# Altium footprint library CustomFootprints.PcbLib: 32 footprints (part 2 of 2)
Each footprint in its own frame and in the unit in brackets; x right, y up, seen from the top. Pads: shape width x height; smd on the part's side, far side on the other; paste and mask are expansions set on the pad; w line width, h text height; cw(c..) or ccw(c..) is an arc to the next point about the centre after c.
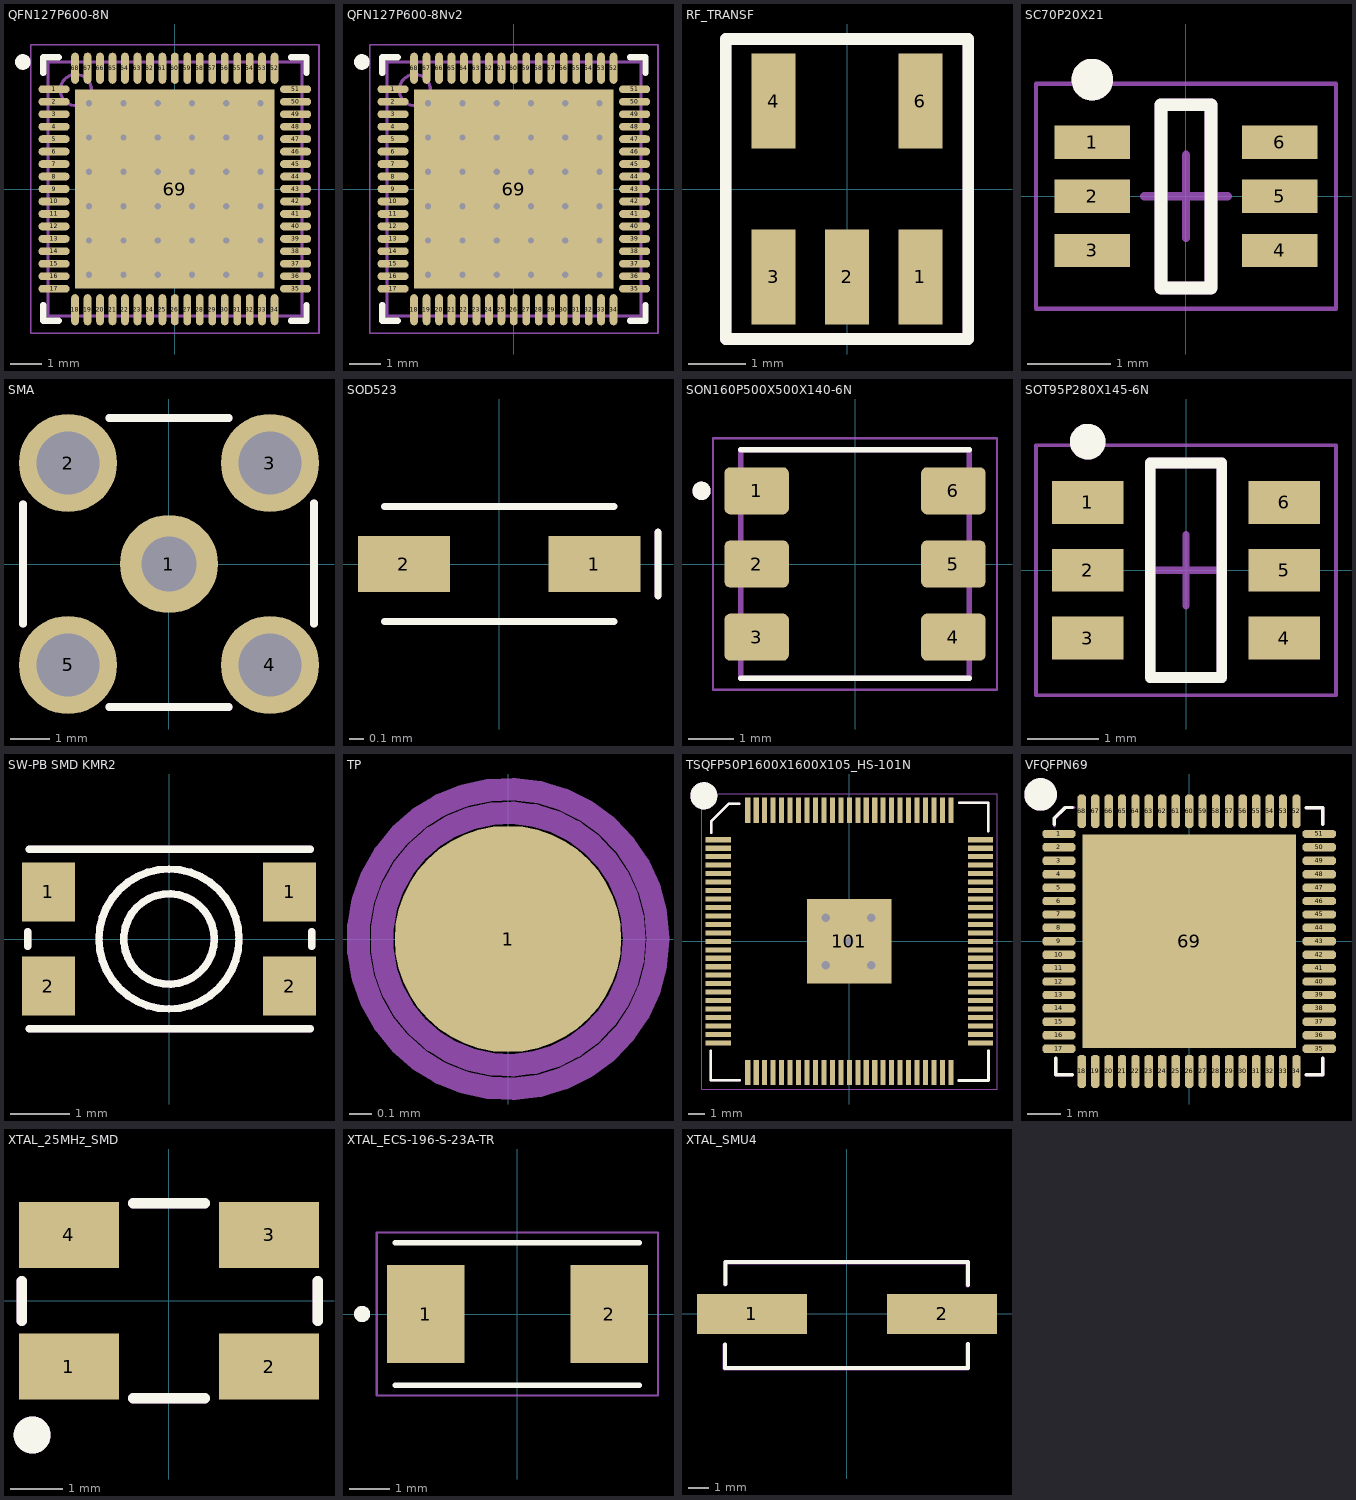
[diagram p1: the footprints below, top view; thin cyan lines are the x and y axes]

## QFN127P600-8N [mm]
height 1
pads (69):
  oval 1x0.25 smd: 1(-3.875,3.2) 2(-3.875,2.8) 3(-3.875,2.4) 4(-3.875,2) 5(-3.875,1.6) 6(-3.875,1.2) 7(-3.875,0.8) 8(-3.875,0.4) 9(-3.875,0) 10(-3.875,-0.4) 11(-3.875,-0.8) 12(-3.875,-1.2) 13(-3.875,-1.6) 14(-3.875,-2) 15(-3.875,-2.4) 16(-3.875,-2.8) 17(-3.875,-3.2) 35(3.875,-3.2) 36(3.875,-2.8) 37(3.875,-2.4) 38(3.875,-2) 39(3.875,-1.6) 40(3.875,-1.2) 41(3.875,-0.8) 42(3.875,-0.4) 43(3.875,0) 44(3.875,0.4) 45(3.875,0.8) 46(3.875,1.2) 47(3.875,1.6) 48(3.875,2) 49(3.875,2.4) 50(3.875,2.8) 51(3.875,3.2)
  oval 0.25x1 smd: 18(-3.2,-3.875) 19(-2.8,-3.875) 20(-2.4,-3.875) 21(-2,-3.875) 22(-1.6,-3.875) 23(-1.2,-3.875) 24(-0.8,-3.875) 25(-0.4,-3.875) 26(0,-3.875) 27(0.4,-3.875) 28(0.8,-3.875) 29(1.2,-3.875) 30(1.6,-3.875) 31(2,-3.875) 32(2.4,-3.875) 33(2.8,-3.875) 34(3.2,-3.875) 52(3.2,3.875) 53(2.8,3.875) 54(2.4,3.875) 55(2,3.875) 56(1.6,3.875) 57(1.2,3.875) 58(0.8,3.875) 59(0.4,3.875) 60(0,3.875) 61(-0.4,3.875) 62(-0.8,3.875) 63(-1.2,3.875) 64(-1.6,3.875) 65(-2,3.875) 66(-2.4,3.875) 67(-2.8,3.875) 68(-3.2,3.875)
  rect 6.4x6.4 smd: 69(0,0)
via -2.75,2.75 diameter 0.5 hole 0.2
via -1.65,2.75 diameter 0.5 hole 0.2
via -0.55,2.75 diameter 0.5 hole 0.2
via 0.55,2.75 diameter 0.5 hole 0.2
via 1.65,2.75 diameter 0.5 hole 0.2
via 2.75,2.75 diameter 0.5 hole 0.2
via -2.75,1.65 diameter 0.5 hole 0.2
via -1.65,1.65 diameter 0.5 hole 0.2
via -0.55,1.65 diameter 0.5 hole 0.2
via 0.55,1.65 diameter 0.5 hole 0.2
via 1.65,1.65 diameter 0.5 hole 0.2
via 2.75,1.65 diameter 0.5 hole 0.2
via -2.75,0.55 diameter 0.5 hole 0.2
via -1.65,0.55 diameter 0.5 hole 0.2
via -0.55,0.55 diameter 0.5 hole 0.2
via 0.55,0.55 diameter 0.5 hole 0.2
via 1.65,0.55 diameter 0.5 hole 0.2
via 2.75,0.55 diameter 0.5 hole 0.2
via -2.75,-0.55 diameter 0.5 hole 0.2
via -1.65,-0.55 diameter 0.5 hole 0.2
via -0.55,-0.55 diameter 0.5 hole 0.2
via 0.55,-0.55 diameter 0.5 hole 0.2
via 1.65,-0.55 diameter 0.5 hole 0.2
via 2.75,-0.55 diameter 0.5 hole 0.2
via -2.75,-1.65 diameter 0.5 hole 0.2
via -1.65,-1.65 diameter 0.5 hole 0.2
via -0.55,-1.65 diameter 0.5 hole 0.2
via 0.55,-1.65 diameter 0.5 hole 0.2
via 1.65,-1.65 diameter 0.5 hole 0.2
via 2.75,-1.65 diameter 0.5 hole 0.2
via -2.75,-2.75 diameter 0.5 hole 0.2
via -1.65,-2.75 diameter 0.5 hole 0.2
via -0.55,-2.75 diameter 0.5 hole 0.2
via 0.55,-2.75 diameter 0.5 hole 0.2
via 1.65,-2.75 diameter 0.5 hole 0.2
via 2.75,-2.75 diameter 0.5 hole 0.2
Top Overlay:
  circle w0.25: c-4.875,4.075 r0.125
  lines w0.2: -4.225,-3.725 -4.225,-4.225 -3.725,-4.225 ; -4.225,3.725 -4.225,4.225 -3.725,4.225 ; 3.725,-4.225 4.225,-4.225 4.225,-3.725 ; 3.725,4.225 4.225,4.225 4.225,3.725
Mechanical 13:
  circle w0.1: c-3.175,3.175 r0.5
  lines w0.1: -4.075,-4.075 -4.075,4.075 4.075,4.075 4.075,-4.075 -4.075,-4.075
Mechanical 15:
  lines w0.05: -4.625,-4.625 -4.625,4.625 4.625,4.625 4.625,-4.625 -4.625,-4.625
  lines w0.1: -0.5,0 0.5,0 ; 0,-0.5 0,0.5
3D body "QFN127P600-8N.step": height 1, standoff 0, extent -4.076,-4.076 4.076,4.076

## QFN127P600-8Nv2 [mm]
height 1
pads (69):
  oval 1x0.25 smd: 1(-3.875,3.2) 2(-3.875,2.8) 3(-3.875,2.4) 4(-3.875,2) 5(-3.875,1.6) 6(-3.875,1.2) 7(-3.875,0.8) 8(-3.875,0.4) 9(-3.875,0) 10(-3.875,-0.4) 11(-3.875,-0.8) 12(-3.875,-1.2) 13(-3.875,-1.6) 14(-3.875,-2) 15(-3.875,-2.4) 16(-3.875,-2.8) 17(-3.875,-3.2) 35(3.875,-3.2) 36(3.875,-2.8) 37(3.875,-2.4) 38(3.875,-2) 39(3.875,-1.6) 40(3.875,-1.2) 41(3.875,-0.8) 42(3.875,-0.4) 43(3.875,0) 44(3.875,0.4) 45(3.875,0.8) 46(3.875,1.2) 47(3.875,1.6) 48(3.875,2) 49(3.875,2.4) 50(3.875,2.8) 51(3.875,3.2)
  oval 0.25x1 smd: 18(-3.2,-3.875) 19(-2.8,-3.875) 20(-2.4,-3.875) 21(-2,-3.875) 22(-1.6,-3.875) 23(-1.2,-3.875) 24(-0.8,-3.875) 25(-0.4,-3.875) 26(0,-3.875) 27(0.4,-3.875) 28(0.8,-3.875) 29(1.2,-3.875) 30(1.6,-3.875) 31(2,-3.875) 32(2.4,-3.875) 33(2.8,-3.875) 34(3.2,-3.875) 52(3.2,3.875) 53(2.8,3.875) 54(2.4,3.875) 55(2,3.875) 56(1.6,3.875) 57(1.2,3.875) 58(0.8,3.875) 59(0.4,3.875) 60(0,3.875) 61(-0.4,3.875) 62(-0.8,3.875) 63(-1.2,3.875) 64(-1.6,3.875) 65(-2,3.875) 66(-2.4,3.875) 67(-2.8,3.875) 68(-3.2,3.875)
  rect 6.4x6.4 smd: 69(0,0)
via 2.75,-2.75 diameter 0.5 hole 0.2
via 1.65,-2.75 diameter 0.5 hole 0.2
via 0.55,-2.75 diameter 0.5 hole 0.2
via -0.55,-2.75 diameter 0.5 hole 0.2
via -1.65,-2.75 diameter 0.5 hole 0.2
via -2.75,-2.75 diameter 0.5 hole 0.2
via 2.75,-1.65 diameter 0.5 hole 0.2
via 1.65,-1.65 diameter 0.5 hole 0.2
via 0.55,-1.65 diameter 0.5 hole 0.2
via -0.55,-1.65 diameter 0.5 hole 0.2
via -1.65,-1.65 diameter 0.5 hole 0.2
via -2.75,-1.65 diameter 0.5 hole 0.2
via 2.75,-0.55 diameter 0.5 hole 0.2
via 1.65,-0.55 diameter 0.5 hole 0.2
via 0.55,-0.55 diameter 0.5 hole 0.2
via -0.55,-0.55 diameter 0.5 hole 0.2
via -1.65,-0.55 diameter 0.5 hole 0.2
via -2.75,-0.55 diameter 0.5 hole 0.2
via 2.75,0.55 diameter 0.5 hole 0.2
via 1.65,0.55 diameter 0.5 hole 0.2
via 0.55,0.55 diameter 0.5 hole 0.2
via -0.55,0.55 diameter 0.5 hole 0.2
via -1.65,0.55 diameter 0.5 hole 0.2
via -2.75,0.55 diameter 0.5 hole 0.2
via 2.75,1.65 diameter 0.5 hole 0.2
via 1.65,1.65 diameter 0.5 hole 0.2
via 0.55,1.65 diameter 0.5 hole 0.2
via -0.55,1.65 diameter 0.5 hole 0.2
via -1.65,1.65 diameter 0.5 hole 0.2
via -2.75,1.65 diameter 0.5 hole 0.2
via 2.75,2.75 diameter 0.5 hole 0.2
via 1.65,2.75 diameter 0.5 hole 0.2
via 0.55,2.75 diameter 0.5 hole 0.2
via -0.55,2.75 diameter 0.5 hole 0.2
via -1.65,2.75 diameter 0.5 hole 0.2
via -2.75,2.75 diameter 0.5 hole 0.2
Top Overlay:
  circle w0.25: c-4.875,4.075 r0.125
  lines w0.2: -4.225,-3.725 -4.225,-4.225 -3.725,-4.225 ; -4.225,3.725 -4.225,4.225 -3.725,4.225 ; 3.725,-4.225 4.225,-4.225 4.225,-3.725 ; 3.725,4.225 4.225,4.225 4.225,3.725
Mechanical 13:
  circle w0.1: c-3.175,3.175 r0.5
  lines w0.1: -4.075,-4.075 4.075,-4.075 4.075,4.075 -4.075,4.075 -4.075,-4.075
Mechanical 15:
  lines w0.05: -4.625,-4.625 4.625,-4.625 4.625,4.625 -4.625,4.625 -4.625,-4.625
  lines w0.1: -0.5,0 0.5,0 ; 0,-0.5 0,0.5
3D body: height 1, standoff 0, extent -4.075,-4.075 4.075,4.075

## RF_TRANSF [mil]
pads (5):
  rect 30x65 smd: 1(50,-60) 2(0,-60) 3(-50,-60) 4(-50,60) 6(50,60)
Top Overlay:
  lines w7.87: -82.68,-102.36 -82.68,102.36 82.68,102.36 82.68,-102.36 -82.68,-102.36
Assembly drawing:
  lines w7.87: -82.68,-102.36 -82.68,102.36 82.68,102.36 82.68,-102.36 -82.68,-102.36
  text "'.Designator'" at -78.74,123.36 h27.56
3D body "User Library-RF Transformer SMD.step": height 110.5, standoff -0.2, extent -75,-75.7 75,75.7

## SC70P20X21 [mm] "SC70, 6-Leads, Body 2.00x2.17mm, Pitch 0.65mm, IPC Medium Density"
height 1.1
pads (6):
  rect 0.9x0.4 smd: 1(-1.125,0.65) 2(-1.125,0) 3(-1.125,-0.65) 4(1.125,-0.65) 5(1.125,0) 6(1.125,0.65)
Top Overlay:
  circle w0.25: c-1.125,1.4 r0.125
  lines w0.152: -0.3,-1.1 -0.3,1.1 0.3,1.1 0.3,-1.1 -0.3,-1.1
Mechanical 15:
  lines w0.05: -1.8,-1.35 1.8,-1.35 1.8,1.35 -1.8,1.35 -1.8,-1.35
  lines w0.1: -0.5,0 0.5,0 ; 0,-0.5 0,0.5
Assembly drawing:
  circle w0.25: c-1.125,1.4 r0.125
  lines w0.152: -0.3,-1.1 -0.3,1.1 0.3,1.1 0.3,-1.1 -0.3,-1.1
  text "'.Designator'" at -3.6,2.133 h0.7
3D body "User Library-SOT363-2.step": height 1.1, standoff 0, extent -1.2,-1.1 1.2,1.1

## SMA [mm]
pads (5):
  round 2.5 hole 1.4: 1(0,0)
  round 2.5 hole 1.6: 2(-2.575,2.575) 3(2.575,2.575) 4(2.575,-2.575) 5(-2.575,-2.575)
Top Overlay:
  lines w0.2: -3.725,-1.523 -3.725,1.525 ; -1.523,-3.65 1.525,-3.65 ; -1.523,3.725 1.525,3.725 ; 3.7,-1.525 3.7,1.548
Assembly drawing:
  lines w0.2: -3.725,-1.523 -3.725,1.525 ; -1.525,3.725 1.523,3.725 ; -1.523,-3.65 1.525,-3.65 ; 3.698,-1.514 3.698,1.55
  text "'.Designator'" at -3.135,0.135 h1.2
3D body "SMA-J-P-H-ST-EM1--3DModel-STEP-46669.STEP": height 7.72, standoff -5.61, extent -3.175,-3.175 3.175,3.175

## SOD523 [mm]
pads (2):
  rect 0.65x0.4 smd mask+0.05: 1(0.675,0) 2(-0.675,0)
Top Overlay:
  lines w0.05: -0.813,-0.406 0.813,-0.406 ; -0.813,0.406 0.813,0.406 ; 1.125,-0.225 1.125,0.225
Assembly drawing:
  lines w0.05: -0.813,-0.406 0.813,-0.406 ; -0.813,0.406 0.813,0.406 ; 1.125,-0.225 1.125,0.225
  text "'.Designator'" at -3.5,0.733 h0.7
3D body: height 0.62, standoff 0.6, extent 0.635,-0.406 0.787,0.406
3D body: height 0.6, standoff 0, extent -0.813,-0.406 0.813,0.406

## SON160P500X500X140-6N [mm]
pads (6):
  rrect25% 1.41x1.03 smd: 1(-2.15,1.6) 2(-2.15,0) 3(-2.15,-1.6) 4(2.15,-1.6) 5(2.15,0) 6(2.15,1.6)
Top Overlay:
  circle w0.2: c-3.355,1.6 r0.1
  lines w0.127: -2.5,-2.5 2.5,-2.5 ; -2.5,2.5 2.5,2.5
Mechanical 13:
  circle w0.2: c-3.355,1.6 r0.1
  lines w0.127: -2.5,-2.5 2.5,-2.5 2.5,2.5 -2.5,2.5 -2.5,-2.5
Mechanical 15:
  lines w0.05: -3.105,-2.75 3.105,-2.75 3.105,2.75 -3.105,2.75 -3.105,-2.75

## SOT95P280X145-6N [mm] "SOT23, 6-Leads, Body 2.90x2.80mm, Pitch 0.95mm, IPC Medium Density"
height 1.45
pads (6):
  rect 1x0.6 smd: 1(-1.375,0.95) 2(-1.375,0) 3(-1.375,-0.95) 4(1.375,-0.95) 5(1.375,0) 6(1.375,0.95)
Top Overlay:
  circle w0.25: c-1.375,1.8 r0.125
  lines w0.152: -0.5,-1.5 -0.5,1.5 0.5,1.5 0.5,-1.5 -0.5,-1.5
Mechanical 15:
  lines w0.05: -2.1,-1.75 2.1,-1.75 2.1,1.75 -2.1,1.75 -2.1,-1.75
  lines w0.1: -0.5,0 0.5,0 ; 0,-0.5 0,0.5
Assembly drawing:
  circle w0.25: c-1.375,1.8 r0.125
  lines w0.152: -0.5,-1.5 -0.5,1.5 0.5,1.5 0.5,-1.5 -0.5,-1.5
  text "'.Designator'" at -3.8,2.433 h0.7
3D body "User Library-SOT23-6-1.step": height 1.09, standoff 0, extent -1.238,-1.394 1.188,1.4

## STM32 [mm]

## SW-PB SMD KMR2 [mm]
pads (4):
  rect 0.9x1 smd: 1(-2.05,0.8) 1(2.05,0.8) 2(-2.05,-0.8) 2(2.05,-0.8)
Top Overlay:
  circle w0.127: c0,0 r1.19
  circle w0.127: c0,0 r0.769
  lines w0.127: -2.4,-0.125 -2.4,0.125 ; -2.375,-1.525 2.4,-1.525 ; -2.375,1.525 2.4,1.525 ; 2.425,-0.125 2.425,0.125
Assembly drawing:
  circle w0.127: c0,0 r1.19
  circle w0.127: c0,0 r0.769
  lines w0.127: -2.4,-0.125 -2.4,0.125 ; -2.375,-1.525 2.4,-1.525 ; -2.375,1.525 2.4,1.525 ; 2.425,-0.125 2.425,0.125
  text "'.Designator'" at -3.6,2.3 h1.2
3D body: height 2.52, standoff 1.79, extent -0.98,-0.923 0.912,0.974
3D body: height 1.79, standoff 0, extent -2.413,-1.524 2.413,1.524

## TP [mm]
pads (1):
  round 1 smd paste+0: 1(0,0)
Top Assembly Testing:
  circle w0.1: c0,0 r0.558
Bottom Assembly Testing:
  circle w0.1: c0,0 r0.558
Mechanical 13:
  circle w0.1: c0,0 r0.662
  text "'.Designator'" at -0.637,-1.8 h0.7

## TSQFP50P1600X1600X105_HS-101N [mm] "TSQFP, 100-Leads, Body 14.00x14.00mm, Pitch 0.50mm, Thermal Pad 5.00x5.00mm, IPC Medium Density"
height 1.05
pads (101):
  rect 1.5x0.3 smd: 1(-7.75,6) 2(-7.75,5.5) 3(-7.75,5) 4(-7.75,4.5) 5(-7.75,4) 6(-7.75,3.5) 7(-7.75,3) 8(-7.75,2.5) 9(-7.75,2) 10(-7.75,1.5) 11(-7.75,1) 12(-7.75,0.5) 13(-7.75,0) 14(-7.75,-0.5) 15(-7.75,-1) 16(-7.75,-1.5) 17(-7.75,-2) 18(-7.75,-2.5) 19(-7.75,-3) 20(-7.75,-3.5) 21(-7.75,-4) 22(-7.75,-4.5) 23(-7.75,-5) 24(-7.75,-5.5) 25(-7.75,-6) 51(7.75,-6) 52(7.75,-5.5) 53(7.75,-5) 54(7.75,-4.5) 55(7.75,-4) 56(7.75,-3.5) 57(7.75,-3) 58(7.75,-2.5) 59(7.75,-2) 60(7.75,-1.5) 61(7.75,-1) 62(7.75,-0.5) 63(7.75,0) 64(7.75,0.5) 65(7.75,1) 66(7.75,1.5) 67(7.75,2) 68(7.75,2.5) 69(7.75,3) 70(7.75,3.5) 71(7.75,4) 72(7.75,4.5) 73(7.75,5) 74(7.75,5.5) 75(7.75,6)
  rect 0.3x1.5 smd: 26(-6,-7.75) 27(-5.5,-7.75) 28(-5,-7.75) 29(-4.5,-7.75) 30(-4,-7.75) 31(-3.5,-7.75) 32(-3,-7.75) 33(-2.5,-7.75) 34(-2,-7.75) 35(-1.5,-7.75) 36(-1,-7.75) 37(-0.5,-7.75) 38(0,-7.75) 39(0.5,-7.75) 40(1,-7.75) 41(1.5,-7.75) 42(2,-7.75) 43(2.5,-7.75) 44(3,-7.75) 45(3.5,-7.75) 46(4,-7.75) 47(4.5,-7.75) 48(5,-7.75) 49(5.5,-7.75) 50(6,-7.75) 76(6,7.75) 77(5.5,7.75) 78(5,7.75) 79(4.5,7.75) 80(4,7.75) 81(3.5,7.75) 82(3,7.75) 83(2.5,7.75) 84(2,7.75) 85(1.5,7.75) 86(1,7.75) 87(0.5,7.75) 88(0,7.75) 89(-0.5,7.75) 90(-1,7.75) 91(-1.5,7.75) 92(-2,7.75) 93(-2.5,7.75) 94(-3,7.75) 95(-3.5,7.75) 96(-4,7.75) 97(-4.5,7.75) 98(-5,7.75) 99(-5.5,7.75) 100(-6,7.75)
  rect 5x5 smd: 101(0,0)
via 0,0 diameter 0.6 hole 0.5
via -1.4,1.4 diameter 0.6 hole 0.5
via 1.3,1.4 diameter 0.6 hole 0.5
via -1.4,-1.4 diameter 0.6 hole 0.5
via 1.3,-1.4 diameter 0.6 hole 0.5
Top Overlay:
  circle w0.8: c-8.6,8.6 r0.4
  lines w0.152: -8.2,-6.475 -8.2,-8.2 -6.475,-8.2 ; -8.15,6.425 -8.15,7.1 -7.125,8.125 -6.5,8.125 ; 6.475,-8.225 8.225,-8.225 8.225,-6.475 ; 6.5,8.2 8.2,8.2 8.2,6.5
Mechanical 15:
  lines w0.05: -8.725,-8.725 -8.725,8.725 8.725,8.725 8.725,-8.725 -8.725,-8.725
  lines w0.1: -0.5,0 0.5,0 ; 0,-0.5 0,0.5
Assembly drawing:
  circle w0.8: c-8.6,8.6 r0.4
  lines w0.152: -8.2,-6.475 -8.2,-8.2 -6.475,-8.2 ; -8.15,6.425 -8.15,7.1 -7.125,8.125 -6.5,8.125 ; 6.475,-8.225 8.225,-8.225 8.225,-6.475 ; 6.5,8.2 8.2,8.2 8.2,6.5
  text "'.Designator'" at -4.8,-4.6 h1.2
3D body "User Library-TQFP100-1.STEP": height 1.56, standoff -0.06, extent -8,-8 8,8

## VFQFPN69 [mm]
pads (69):
  oct 1x0.25 smd mask+0.01: 1(-3.9,3.216) 2(-3.9,2.814) 3(-3.9,2.412) 4(-3.9,2.01) 5(-3.9,1.608) 6(-3.9,1.206) 7(-3.9,0.804) 8(-3.9,0.402) 9(-3.9,0) 10(-3.9,-0.402) 11(-3.9,-0.804) 12(-3.9,-1.206) 13(-3.9,-1.608) 14(-3.9,-2.01) 15(-3.9,-2.412) 16(-3.9,-2.814) 17(-3.9,-3.216) 35(3.9,-3.216) 36(3.9,-2.814) 37(3.9,-2.412) 38(3.9,-2.01) 39(3.9,-1.608) 40(3.9,-1.206) 41(3.9,-0.804) 42(3.9,-0.402) 43(3.9,0) 44(3.9,0.402) 45(3.9,0.804) 46(3.9,1.206) 47(3.9,1.608) 48(3.9,2.01) 49(3.9,2.412) 50(3.9,2.814) 51(3.9,3.216)
  oct 0.25x1 smd mask+0.01: 18(-3.216,-3.9) 19(-2.814,-3.9) 20(-2.412,-3.9) 21(-2.01,-3.9) 22(-1.608,-3.9) 23(-1.206,-3.9) 24(-0.804,-3.9) 25(-0.402,-3.9) 26(0,-3.9) 27(0.402,-3.9) 28(0.804,-3.9) 29(1.206,-3.9) 30(1.608,-3.9) 31(2.01,-3.9) 32(2.412,-3.9) 33(2.814,-3.9) 34(3.216,-3.9) 52(3.216,3.9) 53(2.814,3.9) 54(2.412,3.9) 55(2.01,3.9) 56(1.608,3.9) 57(1.206,3.9) 58(0.804,3.9) 59(0.402,3.9) 60(0,3.9) 61(-0.402,3.9) 62(-0.804,3.9) 63(-1.206,3.9) 64(-1.608,3.9) 65(-2.01,3.9) 66(-2.412,3.9) 67(-2.814,3.9) 68(-3.216,3.9)
  rect 6.4x6.4 smd paste-5 mask-0.01: 69(0,0)
Top Overlay:
  lines w0.1: -4.039,3.505 -4.039,3.686 -3.719,4.006 -3.505,4.006 ; -4,-3.5 -4,-4 -3.5,-4 ; 3.5,-4 4,-4 4,-3.5 ; 3.5,4 4,4 4,3.5
  lines w0.7: -4.313,4.394 cw(c-4.45,4.4) -4.313,4.414
Top Paste:
  rectangle: 1.175,1.1 2.935,2.86
  rectangle: -0.86,1.1 0.9,2.86
  rectangle: -2.9,1.1 -1.14,2.86
  rectangle: 1.175,-0.885 2.935,0.875
  rectangle: -0.86,-0.9 0.9,0.86
  rectangle: -2.9,-0.9 -1.14,0.86
  rectangle: 1.175,-2.91 2.935,-1.15
  rectangle: -0.86,-2.9 0.9,-1.14
  rectangle: -2.9,-2.9 -1.14,-1.14
Assembly drawing:
  lines w0.1: -4.031,3.456 -4.031,3.694 -3.719,4.006 -3.456,4.006 ; -4,-3.5 -4,-4 -3.5,-4 ; 3.5,-4 4,-4 4,-3.5 ; 3.5,4 4,4 4,3.5
  lines w0.7: -4.313,4.394 cw(c-4.45,4.4) -4.313,4.414
  text "'.Designator'" at -3.8,-1.8 h1.2
3D body "QFN68.stp": height 0.85, standoff -0.01, extent -4.05,-4.05 4.05,4.05

## XTAL_25MHz_SMD [mm]
pads (4):
  rect 1.9x1.25 smd: 1(-1.9,-1.25) 2(1.9,-1.25) 3(1.9,1.25) 4(-1.9,1.25)
Top Overlay:
  circle w0.4: c-2.6,-2.55 r0.152
  lines w0.2: -2.8,-0.375 -2.8,0.375 ; -0.675,-1.85 0.675,-1.85 ; -0.675,1.85 0.675,1.85 ; 2.825,-0.375 2.825,0.375
Assembly drawing:
  circle w0.4: c-2.6,-2.55 r0.152
  lines w0.2: -2.8,-0.375 -2.8,0.375 ; -0.675,-1.85 0.675,-1.85 ; -0.675,1.85 0.675,1.85 ; 2.825,-0.375 2.825,0.375
3D body "User Library-Crystal.step": height 0.96, standoff 0.01, extent -2.5,-1.6 2.5,1.6

## XTAL_ECS-196-S-23A-TR [mm]
pads (2):
  rect 1.9x2.4 smd: 1(-2.25,0) 2(2.25,0)
Top Overlay:
  circle w0.2: c-3.81,0 r0.1
  lines w0.127: -3,-1.75 3,-1.75 ; -3,1.75 3,1.75
Mechanical 15:
  lines w0.05: -3.45,-2 3.45,-2 3.45,2 -3.45,2 -3.45,-2
3D body "ECS-196-S-23A-TR.STEP": height 1.1, standoff 0, extent -3,-1.75 3,1.75

## XTAL_SMU4 [mm]
pads (2):
  rect 5.5x2 smd: 1(-4.75,0) 2(4.75,0)
Top Overlay:
  lines w0.2: -6.1,-1.525 -6.1,-2.7 6.05,-2.7 6.05,-1.5 ; -6.075,1.5 -6.075,2.6 6.05,2.6 6.05,1.45
Assembly drawing:
  lines w0.2: -6.125,-1.55 -6.125,-2.725 6.025,-2.725 6.025,-1.525 ; -6.1,1.475 -6.1,2.575 6.025,2.575 6.025,1.425
  text "'.Designator'" at -6.2,3.6 h1.2
3D body "User Library-SMU4.STEP": height 4.01, standoff 0.01, extent -6.276,-2.45 6.225,2.35